# Altium footprint library Ma_Lib.PcbLib: 16 footprints
Each footprint in its own frame and in the unit in brackets; x right, y up, seen from the top. Pads: shape width x height; smd on the part's side, far side on the other; paste and mask are expansions set on the pad; w line width, h text height; cw(c..) or ccw(c..) is an arc to the next point about the centre after c.
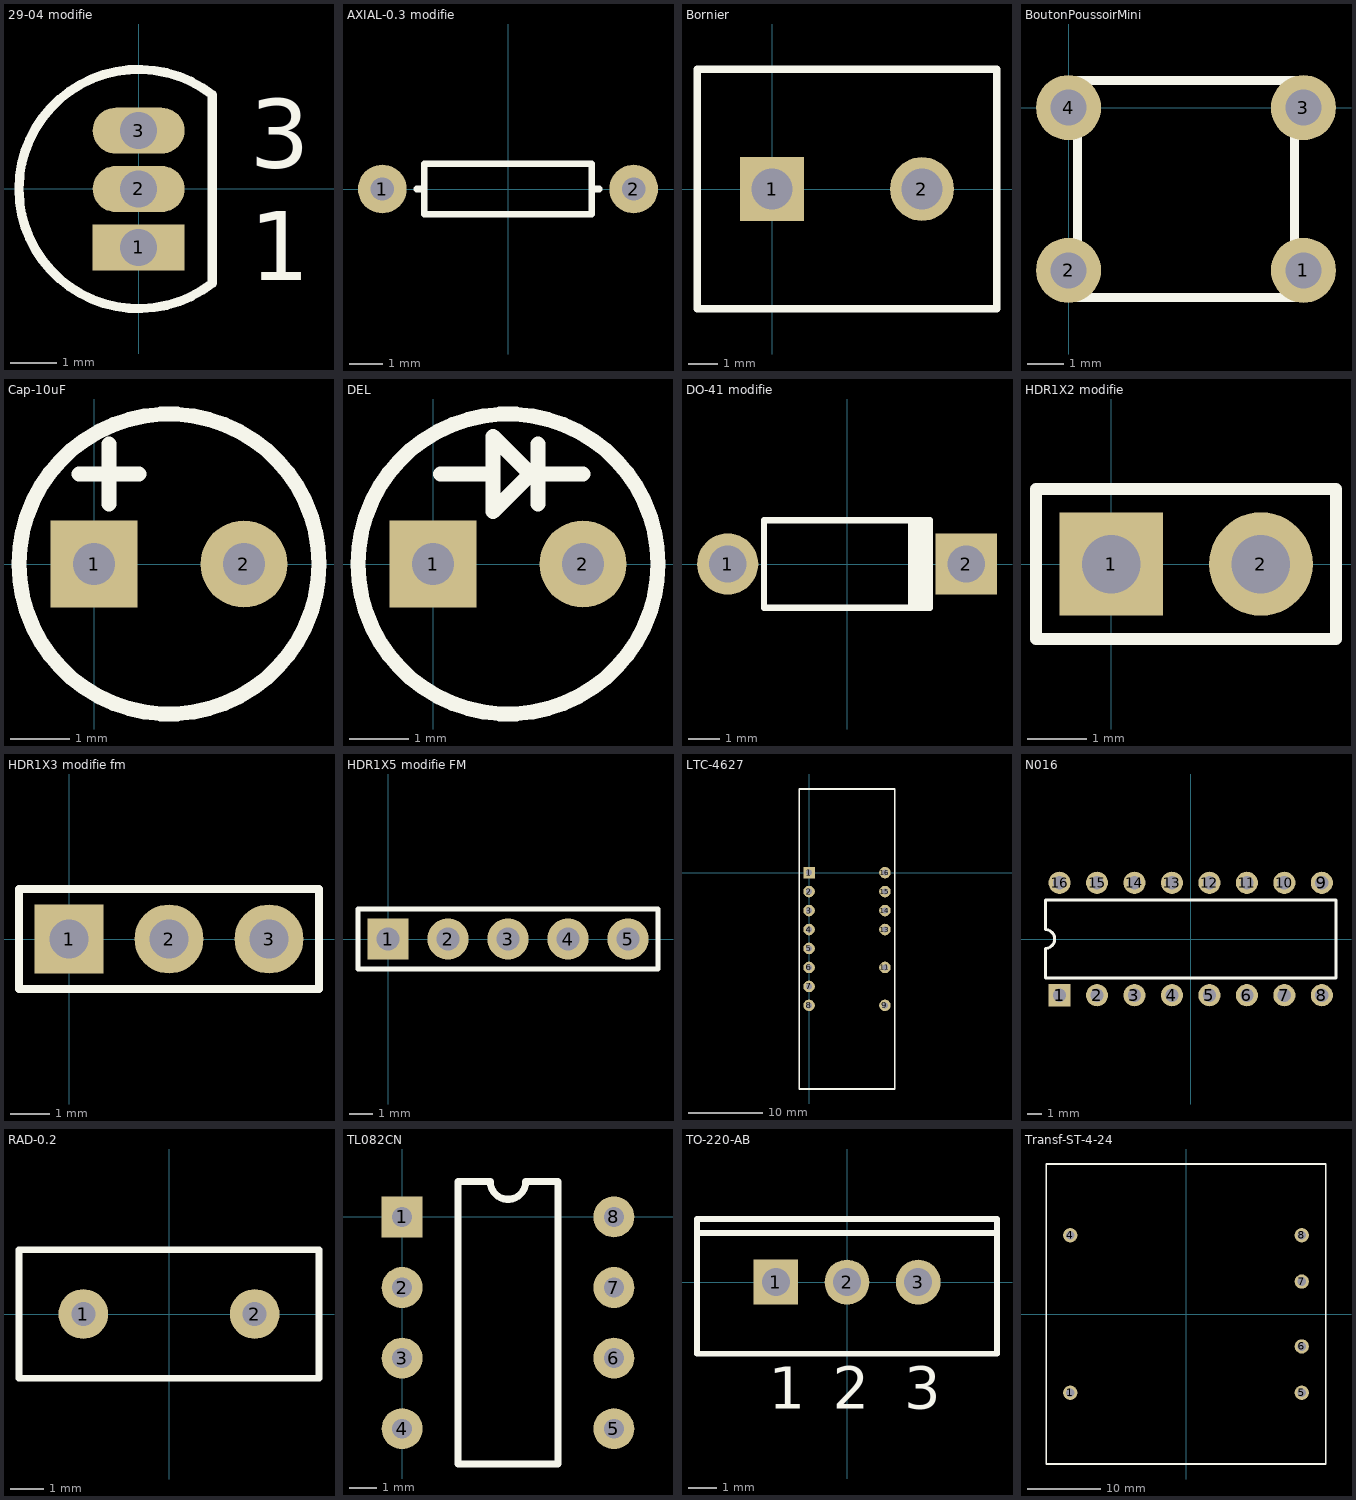
[diagram p0: the footprints below, top view; thin cyan lines are the x and y axes]

## 29-04 modifie [mm] "TO, Flat Index; 3 In-Line, Axial Leads; Body Dia. 4.8mm; Leads 0.48 x 0.5 mm (max)"
height 5.33
pads (3):
  rect 2x1 hole 0.8: 1(0,-1.27)
  oval 2x1 hole 0.8: 2(0,0) 3(0,1.27)
Top Overlay:
  lines w0.2: 1.601,-2.049 cw(c0,0) 1.601,2.049 ; 1.6,-1.99 1.6,1.99
  text "1" at 2.421,-1.979 h1.5
  text "3" at 2.421,0.467 h1.5

## AXIAL-0.3 modifie [mil] "Axial Device, Thru-Hole; 2 Leads; 0.3 in Pin Spacing"
height 60
pads (2):
  round 58 hole 28: 1(-150,0) 2(150,0)
Top Overlay:
  lines w7.87: -109,0 -100,0 ; 109,0 100,0 ; 100,0 100,-30 -100,-30 -100,30 100,30 100,0

## Bornier [mil] "Bornier a vis a 2 positions"
height 10
pads (2):
  rect 85x85 hole 55: 1(0,0)
  round 85 hole 55: 2(200,0)
Top Overlay:
  lines w10: -100,-160 300,-160 300,160 -100,160 -100,-160

## BoutonPoussoirMini [mm] "bouton poussoir 6mm x 6mm flat type"
height 4.293
pads (4):
  round 1.8 hole 1: 1(6.5,-4.5) 2(0,-4.5) 3(6.5,0) 4(0,0)
Top Overlay:
  lines w0.254: 0.25,-5.25 6.25,-5.25 6.25,0.75 0.25,0.75 0.25,-5.25

## Cap-10uF [mil]
pads (2):
  rect 58x58 hole 28: 1(0,0)
  round 58 / inner round 58 / far side round 0 hole 28: 2(100,0)
Top Overlay:
  circle w10: c50,0 r100
  lines w10: -10,60 30,60 ; 10,40 10,80

## DEL [mil]
pads (2):
  rect 58x58 hole 28: 1(0,0)
  round 58 / inner round 58 / far side round 0 hole 28: 2(100,0)
Top Overlay:
  circle w10: c50,0 r100
  lines w10: 5,60 40,60 ; 70,40 70,80 ; 100,60 65,60 ; 65,60 40,85 40,35 65,60

## DO-41 modifie [mil] "Diode, Axial; Body 5.2 x 2.7 mm (LxDia. max), Lead Dia. 0.86 mm (max)"
height 110.24
pads (2):
  round 77 hole 47: 1(-150,0)
  rect 77x77 hole 47: 2(150,0)
Top Overlay:
  rectangle: 76.77,-55.12 108.27,55.12
  lines w7.87: 104.33,-55.12 -104.33,-55.12 -104.33,55.12 104.33,55.12

## HDR1X2 modifie [mil] "Connector; Header; 2 Position"
pads (2):
  rect 69x69 hole 39: 1(0,0)
  round 69 hole 39: 2(100,0)
Top Overlay:
  lines w7.87: -50,-50 -50,50 150,50 150,-50 -50,-50

## HDR1X3 modifie fm [mil] "Connector; Header; 3 Position"
pads (3):
  rect 69x69 hole 39: 1(0,0)
  round 69 hole 39: 2(100,0) 3(200,0)
Top Overlay:
  lines w7.87: -50,-50 -50,50 250,50 250,-50 -50,-50

## HDR1X5 modifie FM [mil] "Connector; Header; 5 Position"
pads (5):
  rect 69x69 / inner rect 69x59.06 / far side rect 69x59.06 hole 39: 1(0,0)
  round 69 / inner oval 69x59.06 / far side oval 69x59.06 hole 39: 2(100,0) 3(200,0) 4(300,0) 5(400,0)
Top Overlay:
  lines w7.87: -50,-50 -50,50 450,50 450,-50 -50,-50

## LTC-4627 [mil]
height 700
pads (14):
  rect 61x61 hole 31: 1(0,0)
  round 61 hole 31: 2(0,-100) 3(0,-200) 4(0,-300) 5(0,-400) 6(0,-500) 7(0,-600) 8(0,-700) 9(400,-700) 11(400,-500) 13(400,-300) 14(400,-200) 15(400,-100) 16(400,0)
Top Overlay:
  lines w10: -52,-1141 452,-1141 452,441 -52,441 -52,-1141

## N016 [mm] "DIP; 16 Leads; Row Spacing 7.62 mm; Pitch 2.54 mm"
height 5.08
pads (16):
  rect 1.5x1.5 hole 0.9: 1(-8.89,-3.81)
  round 1.5 hole 0.9: 2(-6.35,-3.81) 3(-3.81,-3.81) 4(-1.27,-3.81) 5(1.27,-3.81) 6(3.81,-3.81) 7(6.35,-3.81) 8(8.89,-3.81) 9(8.89,3.81) 10(6.35,3.81) 11(3.81,3.81) 12(1.27,3.81) 13(-1.27,3.81) 14(-3.81,3.81) 15(-6.35,3.81) 16(-8.89,3.81)
Top Overlay:
  lines w0.2: -9.85,-2.65 -9.85,-0.635 ccw(c-9.85,0) -9.85,0.635 -9.85,2.65 9.85,2.65 9.85,-2.65 -9.85,-2.65

## RAD-0.2 [mil] "Radial Cap, Thru-Hole; 2 Leads; 0.2 in Pin Spacing"
pads (2):
  round 58 hole 28: 1(-100,0) 2(100,0)
Top Overlay:
  lines w7.87: -175,-75 -175,75 175,75 175,-75 -175,-75

## TL082CN [mil]
pads (8):
  rect 58x58 hole 28: 1(0,0)
  round 58 hole 28: 2(0,-100) 3(0,-200) 4(0,-300) 5(300,-300) 6(300,-200) 7(300,-100) 8(300,0)
Top Overlay:
  lines w10: 79,-350 221,-350 221,50 175,50 cw(c150,50) 125,50 79,50 79,-350

## TO-220-AB [mm] "TO, Thru-Hole, Vertical, Heatsink Mounted; 3 In-Line Leads; Pitch 2.54 mm"
height 19.1
pads (3):
  rect 1.6x1.6 hole 1: 1(-2.54,0)
  round 1.6 hole 1: 2(0,0) 3(2.54,0)
Top Overlay:
  lines w0.2: -5.35,1.75 5.35,1.75 ; -5.35,-2.55 -5.35,2.25 5.35,2.25 5.35,-2.55 -5.35,-2.55
  text "3" at 2.04,-4.525 h1.5
  text "2" at -0.5,-4.525 h1.5
  text "1" at -2.79,-4.525 h1.5

## Transf-ST-4-24 [mil] "single primary"
height 1310
pads (6):
  round 77 hole 47: 1(-625,-425) 4(-625,425) 5(625,-425) 6(625,-175) 7(625,175) 8(625,425)
Top Overlay:
  lines w10: -755,-810 755,-810 755,810 -755,810 -755,-810